# EAGLE library part AD8352ACPZ-R7 (library My_Library_RADAR)
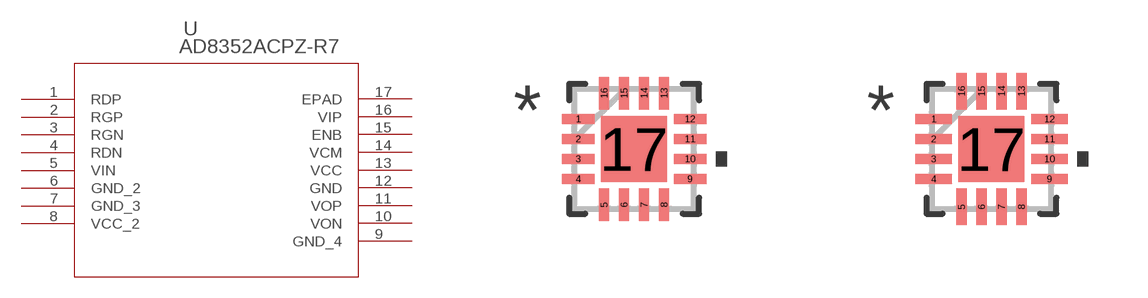
[diagram p19: symbol with the pads of CP_16_3_ADI; footprints CP_16_3_ADI, CP_16_3_ADI-M]

Designator prefix U

## AD8352ACPZ-R7 (COPYRIGHT: Copyright (C) 2025 Ultra Librarian. All rights reserved.; DATASHEET: https://www.analog.com/media/en/technical-documentation/data-sheets/ad8352.pdf; DESCRIPTION: 2 GHz Ultralow Distortion Differential RF/IF Amplifier; MANUFACTURER_NAME: Analog Devices Inc; MANUFACTURER_PART_NUMBER: AD8352ACPZ-R7)  [CP_16_3_ADI]
1  RDP  pas
2  RGP  pas
3  RGN  pas
4  RDN  pas
5  VIN  in
6  GND_2  pwr
7  GND_3  pwr
8  VCC_2  pwr
9  GND_4  pwr
10  VON  out
11  VOP  out
12  GND  pwr
13  VCC  pwr
14  VCM  pas
15  ENB  pas
16  VIP  in
17  EPAD  pas

## AD8352ACPZ-R7CP_16_3_ADI-M (COPYRIGHT: Copyright (C) 2025 Ultra Librarian. All rights reserved.; DATASHEET: https://www.analog.com/media/en/technical-documentation/data-sheets/ad8352.pdf; DESCRIPTION: 2 GHz Ultralow Distortion Differential RF/IF Amplifier; MANUFACTURER_NAME: Analog Devices Inc; MANUFACTURER_PART_NUMBER: AD8352ACPZ-R7)  [CP_16_3_ADI-M]
Pads as for CP_16_3_ADI

## AD8352ACPZ-R7CP_16_3_ADI-L (COPYRIGHT: Copyright (C) 2025 Ultra Librarian. All rights reserved.; DATASHEET: https://www.analog.com/media/en/technical-documentation/data-sheets/ad8352.pdf; DESCRIPTION: 2 GHz Ultralow Distortion Differential RF/IF Amplifier; MANUFACTURER_NAME: Analog Devices Inc; MANUFACTURER_PART_NUMBER: AD8352ACPZ-R7)  [CP_16_3_ADI-L]
Pads as for CP_16_3_ADI

## Footprint CP_16_3_ADI (pad centres in mm)
smd 0.813 x 0.254: 1 -1.397,0.75; 2 -1.397,0.25; 3 -1.397,-0.25; 4 -1.397,-0.75; 9 1.397,-0.75; 10 1.397,-0.25; 11 1.397,0.25; 12 1.397,0.75
smd 0.254 x 0.813: 5 -0.75,-1.397; 6 -0.25,-1.397; 7 0.25,-1.397; 8 0.75,-1.397; 13 0.75,1.397; 14 0.25,1.397; 15 -0.25,1.397; 16 -0.75,1.397
smd 1.651 x 1.651: 17 0,0

## Footprint CP_16_3_ADI-M (pad centres in mm)
smd 0.914 x 0.254: 1 -1.448,0.75; 2 -1.448,0.25; 3 -1.448,-0.25; 4 -1.448,-0.75; 9 1.448,-0.75; 10 1.448,-0.25; 11 1.448,0.25; 12 1.448,0.75
smd 0.254 x 0.914: 5 -0.75,-1.448; 6 -0.25,-1.448; 7 0.25,-1.448; 8 0.75,-1.448; 13 0.75,1.448; 14 0.25,1.448; 15 -0.25,1.448; 16 -0.75,1.448
smd 1.651 x 1.651: 17 0,0

## Footprint CP_16_3_ADI-L (pad centres in mm)
smd 0.711 x 0.254: 1 -1.346,0.75; 2 -1.346,0.25; 3 -1.346,-0.25; 4 -1.346,-0.75; 9 1.346,-0.75; 10 1.346,-0.25; 11 1.346,0.25; 12 1.346,0.75
smd 0.254 x 0.711: 5 -0.75,-1.346; 6 -0.25,-1.346; 7 0.25,-1.346; 8 0.75,-1.346; 13 0.75,1.346; 14 0.25,1.346; 15 -0.25,1.346; 16 -0.75,1.346
smd 1.651 x 1.651: 17 0,0